# EAGLE library part HP03S (library HopeRF)
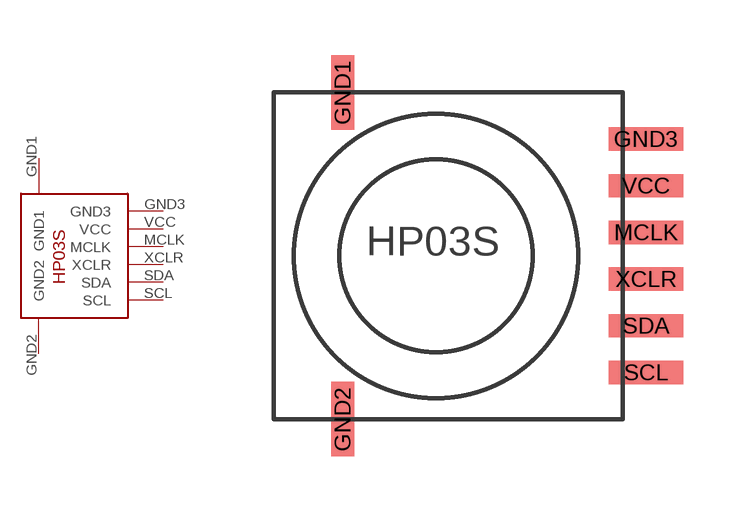
[diagram p0: symbol with the pads of HP03S; footprint HP03S]

Designator prefix -

## HP03S  [HP03S]
GND1  GND1
GND2  GND2
GND3  GND3
MCLK  MCLK
SCL  SCL
SDA  SDA
VCC  VCC
XCLR  XCLR

## Footprint HP03S (pad centres in mm)
smd 0.635 x 2.032: GND1 -7.62,7.62; GND2 -7.62,-1.27
smd 2.032 x 0.635: GND3 0.635,6.35; MCLK 0.635,3.81; SCL 0.635,0; SDA 0.635,1.27; VCC 0.635,5.08; XCLR 0.635,2.54